# Altium schematic symbol library SnapEDAsch.SchLib: 24 symbols
Pins are listed as number, name and electrical type; pins without a type are passive.

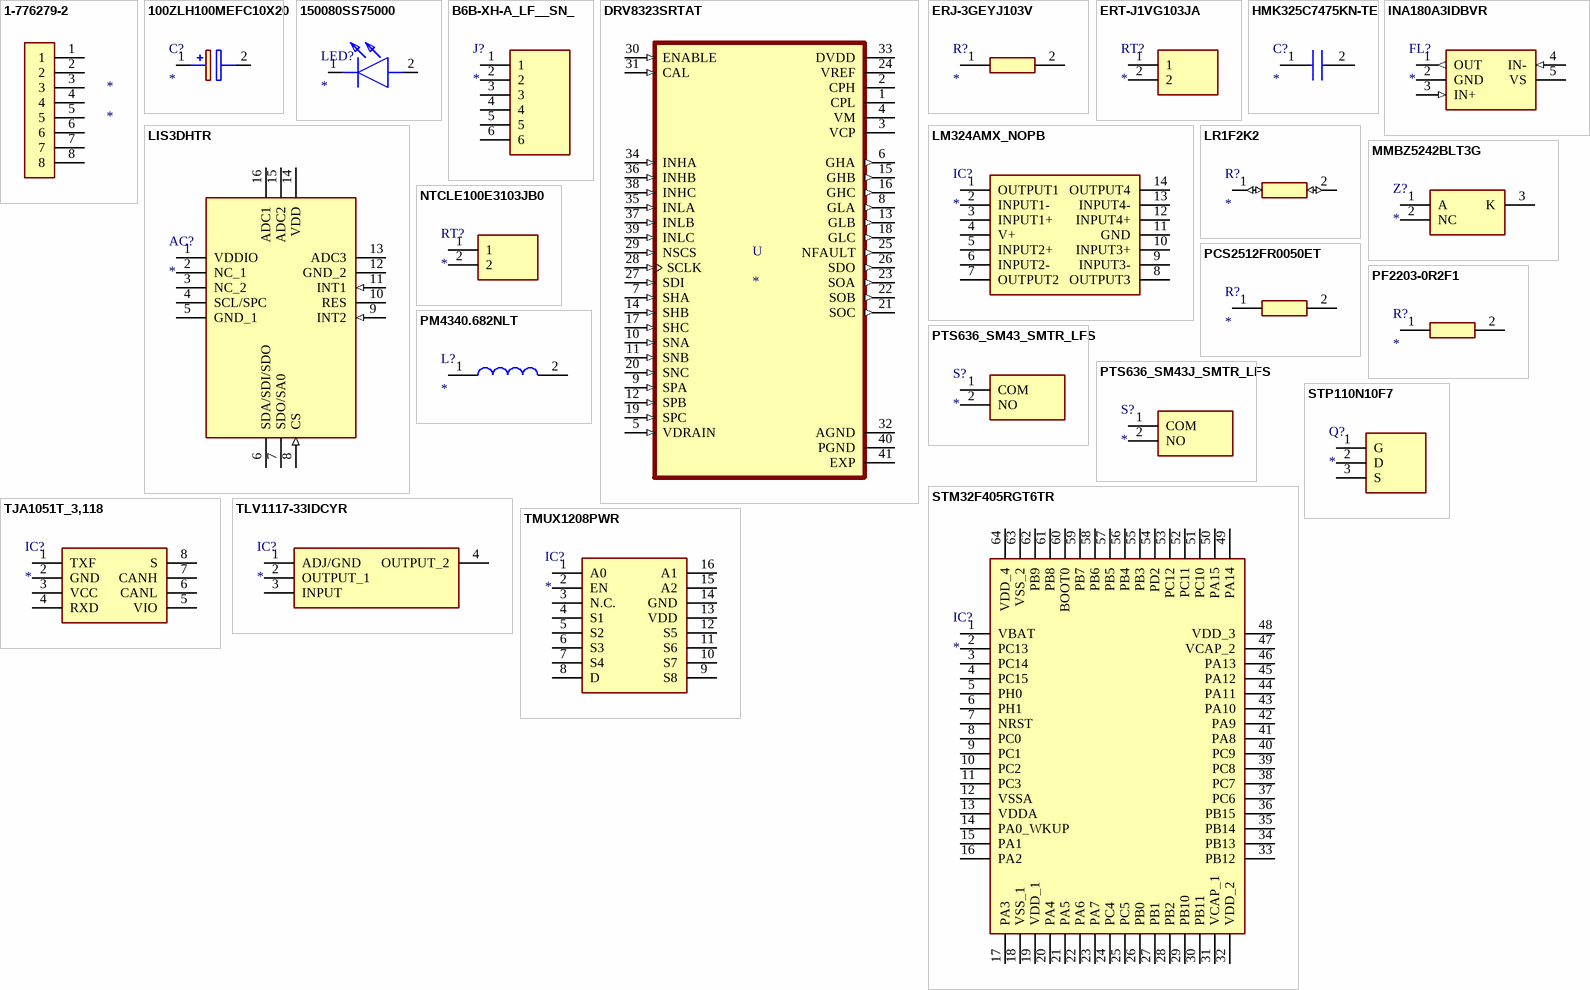
[diagram p0: symbols 1-776279-2 to TMUX1208PWR]

## 1-776279-2
designator *
footprint TE_1-776279-2
pins: 1, 2, 3, 4, 5, 6, 7, 8

## 100ZLH100MEFC10X20
designator C?
Capacitor Polarised; Manufacturer_Name: Rubycon; Manufacturer_Part_Number: 100ZLH100MEFC10X20; Datasheet Link: https://www.mouser.com/datasheet/2/977/e_ZLH-1601216.pdf; Height: 22mm; Mouser Part Number: 232-100ZLH100MEFC10X; Mouser Price/Stock: https://www.mouser.co.uk/ProductDetail/Rubycon/100ZLH100MEFC10X20?qs=T3oQrply3y97%252BB3Mds2IEA%3D%3D
footprint CAPPRD500W60D1025H2200
pins: 1 +, 2 -

## 150080SS75000
designator LED?
LED; Manufacturer_Name: Wurth Elektronik; Manufacturer_Part_Number: 150080SS75000; Description: Wurth Elektronik 150080SS75000; Datasheet Link: https://katalog.we-online.com/led/datasheet/150080SS75000.pdf; Height: 0.8mm; Mouser Part Number: 710-150080SS75000; Mouser Price/Stock: https://www.mouser.co.uk/ProductDetail/Wurth-Elektronik/150080SS75000/?qs=LlUlMxKIyB2zzpiaOzrUdw%3D%3D
footprint LEDC2012X80N
pins: 1 K, 2 A

## B6B-XH-A_LF__SN_
designator J?
Connector; Manufacturer_Name: JST Sales America; Manufacturer_Part_Number: B6B-XH-A(LF)(SN); Datasheet Link: https://datasheet.lcsc.com/szlcsc/JST-Sales-America-B6B-XH-A-LF-SN_C144397.pdf; Height: 7mm
footprint SHDR6W64P0X250_1X6_1740X575X700P
pins: 1, 2, 3, 4, 5, 6

## DRV8323SRTAT
designator U
Multiphase Motor Driver Power MOSFET SPI 40-WQFN _6x6_; MF: Texas Instruments; MP: DRV8323SRTAT; SnapEDA_Link: https://www.snapeda.com/parts/DRV8323SRTAT/Texas%20Instruments/view-part/1675025/?ref=snap; Price: None; Package: WQFN-40 Texas Instruments; Value: *; Availability: Unavailable
footprint QFN50P600X600X80-41N415X415
pins: 1 CPL (power), 2 CPH (power), 3 VCP (power), 4 VM (power), 5 VDRAIN (in), 6 GHA (out), 7 SHA (in), 8 GLA (out), 9 SPA (in), 10 SNA (in), 11 SNB (in), 12 SPB (in), 13 GLB (out), 14 SHB (in), 15 GHB (out), 16 GHC (out), 17 SHC (in), 18 GLC (out), 19 SPC (in), 20 SNC (in), 21 SOC (out), 22 SOB (out), 23 SOA (out), 24 VREF (power), 25 NFAULT (out), 26 SDO (out), 27 SDI (in), 28 SCLK (in), 29 NSCS (in), 30 ENABLE (in), 31 CAL (in), 32 AGND (power), 33 DVDD (power), 34 INHA (in), 35 INLA (in), 36 INHB (in), 37 INLB (in), 38 INHC (in), 39 INLC (in), 40 PGND (power), 41 EXP (power)

## ERJ-3GEYJ103V
designator R?
Resistor; Manufacturer_Name: Panasonic; Manufacturer_Part_Number: ERJ-3GEYJ103V; Datasheet Link: http://docs-emea.rs-online.com/webdocs/13ba/0900766b813ba21b.pdf; Height: 0.55mm; Mouser Part Number: 667-ERJ-3GEYJ103V; Mouser Price/Stock: https://www.mouser.co.uk/ProductDetail/Panasonic/ERJ-3GEYJ103V/?qs=66DK8nO8gJBWgc%252B0VNNxzg%3D%3D; Arrow Part Number: ERJ-3GEYJ103V; Arrow Price/Stock: https://www.arrow.com/en/products/erj-3geyj103v/panasonic
footprint RESC1608X55N
pins: 1, 2

## ERT-J1VG103JA
designator RT?
Thermistor; Manufacturer_Name: Panasonic; Manufacturer_Part_Number: ERT-J1VG103JA; Datasheet Link: https://na.industrial.panasonic.com/sites/default/pidsa/files/downloads/files/ertjm-series-datasheet.pdf; Height: 0.9mm; Mouser Part Number: 667-ERT-J1VG103JA; Mouser Price/Stock: https://www.mouser.co.uk/ProductDetail/Panasonic/ERT-J1VG103JA?qs=9gtMhpKs0nHcy%2FlLGCbgtw%3D%3D; Arrow Part Number: ERT-J1VG103JA; Arrow Price/Stock: https://www.arrow.com/en/products/ert-j1vg103ja/panasonic
footprint THRMC1608X90N
pins: 1, 2

## HMK325C7475KN-TE
designator C?
Capacitor; Manufacturer_Name: TAIYO YUDEN; Manufacturer_Part_Number: HMK325C7475KN-TE; Datasheet Link: https://ds.yuden.co.jp/TYCOMPAS/ut/download?pn=LMK063BBJ474MPLF&fileType=CA; Height: 2.1mm; Mouser Part Number: 963-HMK325C7475KN-TE; Mouser Price/Stock: https://www.mouser.co.uk/ProductDetail/Taiyo-Yuden/HMK325C7475KN-TE/?qs=VWNNG7jHlrLx990u%2FY7uIw%3D%3D
footprint CAPC3225X210N
pins: 1, 2

## INA180A3IDBVR
designator FL?
Filter; Manufacturer_Name: Texas Instruments; Manufacturer_Part_Number: INA180A3IDBVR; Datasheet Link: http://www.ti.com/lit/gpn/INA180; Height: 1.45mm; Mouser Part Number: 595-INA180A3IDBVR; Mouser Price/Stock: https://www.mouser.co.uk/ProductDetail/Texas-Instruments/INA180A3IDBVR?qs=5aG0NVq1C4xT61h4EgbaIA%3D%3D; Arrow Part Number: INA180A3IDBVR; Arrow Price/Stock: https://www.arrow.com/en/products/ina180a3idbvr/texas-instruments
footprint SOT95P280X145-5N
pins: 1 OUT (out), 2 GND (power), 3 IN+ (in), 4 IN- (in), 5 VS (power)

## LIS3DHTR
designator AC?
Accelerometer; Manufacturer_Name: STMicroelectronics; Manufacturer_Part_Number: LIS3DHTR; Datasheet Link: http://www.st.com/content/ccc/resource/technical/document/datasheet/3c/ae/50/85/d6/b1/46/fe/CD00274221.pdf/files/CD00274221.pdf/jcr:content/translations/en.CD00274221.pdf; Height: 1mm; Mouser Part Number: 511-LIS3DHTR; Mouser Price/Stock: https://www.mouser.co.uk/ProductDetail/STMicroelectronics/LIS3DHTR/?qs=6la6oa3D8xzhXYax3cEo4w%3D%3D; Arrow Part Number: LIS3DHTR; Arrow Price/Stock: https://www.arrow.com/en/products/lis3dhtr/stmicroelectronics
footprint LIS3DHTR
pins: 1 VDDIO (power), 2 NC_1, 3 NC_2, 4 SCL/SPC, 5 GND_1 (power), 6 SDA/SDI/SDO, 7 SDO/SA0, 8 CS (in), 9 INT2 (in), 10 RES, 11 INT1 (in), 12 GND_2 (power), 13 ADC3, 14 VDD (power), 15 ADC2, 16 ADC1

## LM324AMX_NOPB
designator IC?
Integrated Circuit; Manufacturer_Name: Texas Instruments; Manufacturer_Part_Number: LM324AMX/NOPB; Datasheet Link: http://www.ti.com/lit/ds/symlink/lm124-n.pdf; Height: 1.75mm; Mouser Part Number: 926-LM324AMX/NOPB; Mouser Price/Stock: https://www.mouser.co.uk/ProductDetail/Texas-Instruments/LM324AMX-NOPB?qs=X1J7HmVL2ZGoShKBIiyAoQ%3D%3D; Arrow Part Number: LM324AMX/NOPB; Arrow Price/Stock: https://www.arrow.com/en/products/lm324amxnopb/texas-instruments
footprint SOIC127P600X175-14N
pins: 1 OUTPUT1, 2 INPUT1-, 3 INPUT1+, 4 V+, 5 INPUT2+, 6 INPUT2-, 7 OUTPUT2, 8 OUTPUT3, 9 INPUT3-, 10 INPUT3+, 11 GND, 12 INPUT4+, 13 INPUT4-, 14 OUTPUT4

## LR1F2K2
designator R?
Resistor; Manufacturer_Name: TE Connectivity; Manufacturer_Part_Number: LR1F2K2; Datasheet Link: https://componentsearchengine.com/Datasheets/2/LR1F2K2.pdf; Mouser Part Number: 279-LR1F2K2; Mouser Price/Stock: https://www.mouser.com/Search/Refine.aspx?Keyword=279-LR1F2K2; Arrow Part Number: LR1F2K2; Arrow Price/Stock: https://www.arrow.com/en/products/lr1f2k2/te-connectivity
footprint RESAD1540W55L620D230
pins: 1 (io), 2 (io)

## MMBZ5242BLT3G
designator Z?
Zener Diode; Manufacturer_Name: ON Semiconductor; Manufacturer_Part_Number: MMBZ5242BLT3G; Datasheet Link: http://www.onsemi.com/pub/Collateral/MMBZ5221BLT1-D.PDF; Height: 1.11mm; Mouser Part Number: 863-MMBZ5242BLT3G; Mouser Price/Stock: https://www.mouser.co.uk/ProductDetail/ON-Semiconductor/MMBZ5242BLT3G/?qs=P4IOph%252Bbot8zm7%252BOlKh6Qw%3D%3D; Arrow Part Number: MMBZ5242BLT3G; Arrow Price/Stock: https://www.arrow.com/en/products/mmbz5242blt3g/on-semiconductor
footprint SOT96P237X111-3N
pins: 1 A, 2 NC, 3 K

## NTCLE100E3103JB0
designator RT?
Thermistor; Manufacturer_Name: Vishay; Manufacturer_Part_Number: NTCLE100E3103JB0; Datasheet Link: https://www.mouser.com/datasheet/2/427/ntcle100-222385.pdf; Height: 10mm; Mouser Part Number: 594-2381-640-63103; Mouser Price/Stock: https://www.mouser.co.uk/ProductDetail/Vishay-BC-Components/NTCLE100E3103JB0/?qs=MSh2oj3GFQcs%2FteGkdbngw%3D%3D; Arrow Part Number: NTCLE100E3103JB0; Arrow Price/Stock: https://www.arrow.com/en/products/ntcle100e3103jb0/vishay
footprint NTCLE100E3103JB0
pins: 1, 2

## PCS2512FR0050ET
designator R?
Resistor; Manufacturer_Name: Ohmite; Manufacturer_Part_Number: PCS2512FR0050ET; Datasheet Link: https://eu.mouser.com/datasheet/2/303/res_pcs-1665423.pdf; Height: 0.664mm; Mouser Part Number: 588-PCS2512FR0050ET; Mouser Price/Stock: https://www.mouser.co.uk/ProductDetail/Ohmite/PCS2512FR0050ET?qs=Zz7%252BYVVL6bF35w7L3sqShw%3D%3D
footprint RESC6430X66N
pins: 1, 2

## PF2203-0R2F1
designator R?
Resistor; Manufacturer_Name: Riedon; Manufacturer_Part_Number: PF2203-0R2F1; Datasheet Link: https://riedon.com/media/pdf/PF2200.pdf; Height: 4.7mm
footprint TO508P470X1010X2030-2P
pins: 1, 2

## PM4340.682NLT
designator L?
Inductor; Manufacturer_Name: Pulse; Manufacturer_Part_Number: PM4340.682NLT; Datasheet Link: https://eu.mouser.com/ProductDetail/Pulse-Electronics/PM4345682NLT?qs=OTrKUuiFdkYTz4rt1sdWWw%3D%3D; Height: 2mm
footprint PM4340682NLT
pins: 1, 2

## PTS636_SM43_SMTR_LFS
designator S?
Switch; Manufacturer_Name: C & K COMPONENTS; Manufacturer_Part_Number: PTS636 SM43 SMTR LFS; Datasheet Link: https://componentsearchengine.com/Datasheets/1/PTS636 SM43 SMTR LFS.pdf; Height: 4.5mm; Mouser Part Number: 611-PTS636SM43SMTRLF; Mouser Price/Stock: https://www.mouser.co.uk/ProductDetail/CK/PTS636-SM43-SMTR-LFS/?qs=vLWxofP3U2xu5raMGkTmHg%3D%3D; Arrow Part Number: PTS636 SM43 SMTR LFS; Arrow Price/Stock: https://www.arrow.com/en/products/pts636-sm43-smtr-lfs/ck
footprint PTS636SM43SMTRLFS
pins: 1 COM, 2 NO

## PTS636_SM43J_SMTR_LFS
designator S?
Switch; Manufacturer_Name: C & K COMPONENTS; Manufacturer_Part_Number: PTS636 SM43J SMTR LFS; Datasheet Link: https://componentsearchengine.com/Datasheets/1/PTS636 SM43J SMTR LFS.pdf; Height: 4.3mm; Mouser Part Number: 611-PTS636SM43JSMTRL; Mouser Price/Stock: https://www.mouser.co.uk/ProductDetail/CK/PTS636-SM43J-SMTR-LFS?qs=vLWxofP3U2wboJ6ciMafNg%3D%3D; Arrow Part Number: PTS636 SM43J SMTR LFS; Arrow Price/Stock: https://www.arrow.com/en/products/pts636-sm43j-smtr-lfs/ck
footprint PTS636SM43JSMTRLFS
pins: 1 COM, 2 NO

## STM32F405RGT6TR
designator IC?
Integrated Circuit; Manufacturer_Name: STMicroelectronics; Manufacturer_Part_Number: STM32F405RGT6TR; Datasheet Link: http://www.st.com/web/en/resource/technical/document/datasheet/DM00037051.pdf; Height: 1.6mm; Mouser Part Number: 511-STM32F405RGT6TR; Mouser Price/Stock: https://www.mouser.co.uk/ProductDetail/STMicroelectronics/STM32F405RGT6TR/?qs=MavH1QghrkHshpR6GkvPIg%3D%3D; Arrow Part Number: STM32F405RGT6TR; Arrow Price/Stock: https://www.arrow.com/en/products/stm32f405rgt6tr/stmicroelectronics
footprint QFP50P1200X1200X160-64N
pins: 1 VBAT, 2 PC13, 3 PC14, 4 PC15, 5 PH0, 6 PH1, 7 NRST, 8 PC0, 9 PC1, 10 PC2, 11 PC3, 12 VSSA, 13 VDDA, 14 PA0_WKUP, 15 PA1, 16 PA2, 17 PA3, 18 VSS_1, 19 VDD_1, 20 PA4, 21 PA5, 22 PA6, 23 PA7, 24 PC4, 25 PC5, 26 PB0, 27 PB1, 28 PB2, 29 PB10, 30 PB11, 31 VCAP_1, 32 VDD_2, 33 PB12, 34 PB13, 35 PB14, 36 PB15, 37 PC6, 38 PC7, 39 PC8, 40 PC9, 41 PA8, 42 PA9, 43 PA10, 44 PA11, 45 PA12, 46 PA13, 47 VCAP_2, 48 VDD_3, 49 PA14, 50 PA15, 51 PC10, 52 PC11, 53 PC12, 54 PD2, 55 PB3, 56 PB4, 57 PB5, 58 PB6, 59 PB7, 60 BOOT0, 61 PB8, 62 PB9, 63 VSS_2, 64 VDD_4

## STP110N10F7
designator Q?
Transistor; Manufacturer_Name: STMicroelectronics; Manufacturer_Part_Number: STP110N10F7; Datasheet Link: http://www.st.com/web/en/resource/technical/document/datasheet/DM00072347.pdf; Height: 4.6mm; Mouser Part Number: 511-STP110N10F7; Mouser Price/Stock: https://www.mouser.com/Search/Refine.aspx?Keyword=511-STP110N10F7
footprint TO255P460X1020X2008-3P
pins: 1 G, 2 D, 3 S

## TJA1051T_3,118
designator IC?
Integrated Circuit; Manufacturer_Name: NXP; Manufacturer_Part_Number: TJA1051T/3,118; Datasheet Link: http://www.nxp.com/docs/en/data-sheet/TJA1051.pdf; Height: 1.75mm; Mouser Part Number: 771-TJA1051T3118; Mouser Price/Stock: https://www.mouser.co.uk/ProductDetail/NXP-Semiconductors/TJA1051T-3118?qs=O%2F7ihdSJpebv1PFlp05wnQ%3D%3D; Arrow Part Number: TJA1051T/3,118; Arrow Price/Stock: https://www.arrow.com/en/products/tja1051t3118/nxp-semiconductors
footprint SOIC127P600X175-8N
pins: 1 TXF, 2 GND, 3 VCC, 4 RXD, 5 VIO, 6 CANL, 7 CANH, 8 S

## TLV1117-33IDCYR
designator IC?
Integrated Circuit; Manufacturer_Name: Texas Instruments; Manufacturer_Part_Number: TLV1117-33IDCYR; Datasheet Link: http://www.ti.com/lit/ds/symlink/tlv1117-33.pdf; Height: 1.8mm; Mouser Part Number: 595-TLV1117-33IDCYR; Mouser Price/Stock: https://www.mouser.co.uk/ProductDetail/Texas-Instruments/TLV1117-33IDCYR/?qs=p6lVfQR1GSoKgp3tAXcW5w%3D%3D; Arrow Part Number: TLV1117-33IDCYR; Arrow Price/Stock: https://www.arrow.com/en/products/tlv1117-33idcyr/texas-instruments
footprint SOT230P700X180-4N
pins: 1 ADJ/GND, 2 OUTPUT_1, 3 INPUT, 4 OUTPUT_2

## TMUX1208PWR
designator IC?
Integrated Circuit; Manufacturer_Name: Texas Instruments; Manufacturer_Part_Number: TMUX1208PWR; Datasheet Link: http://www.ti.com/lit/gpn/tmux1208; Height: 1.2mm; Mouser Part Number: 595-TMUX1208PWR; Mouser Price/Stock: https://www.mouser.co.uk/ProductDetail/Texas-Instruments/TMUX1208PWR/?qs=lc2O%252BfHJPVbYdIGs2%2FdugA%3D%3D; Arrow Part Number: TMUX1208PWR; Arrow Price/Stock: https://www.arrow.com/en/products/tmux1208pwr/texas-instruments
footprint SOP65P640X120-16N
pins: 1 A0, 2 EN, 3 N.C., 4 S1, 5 S2, 6 S3, 7 S4, 8 D, 9 S8, 10 S7, 11 S6, 12 S5, 13 VDD, 14 GND, 15 A2, 16 A1